# Altium footprint library SH1.0.PcbLib: 18 footprints (part 1 of 2)
Each footprint in its own frame and in the unit in brackets; x right, y up, seen from the top. Pads: shape width x height; smd on the part's side, far side on the other; paste and mask are expansions set on the pad; w line width, h text height; cw(c..) or ccw(c..) is an arc to the next point about the centre after c.
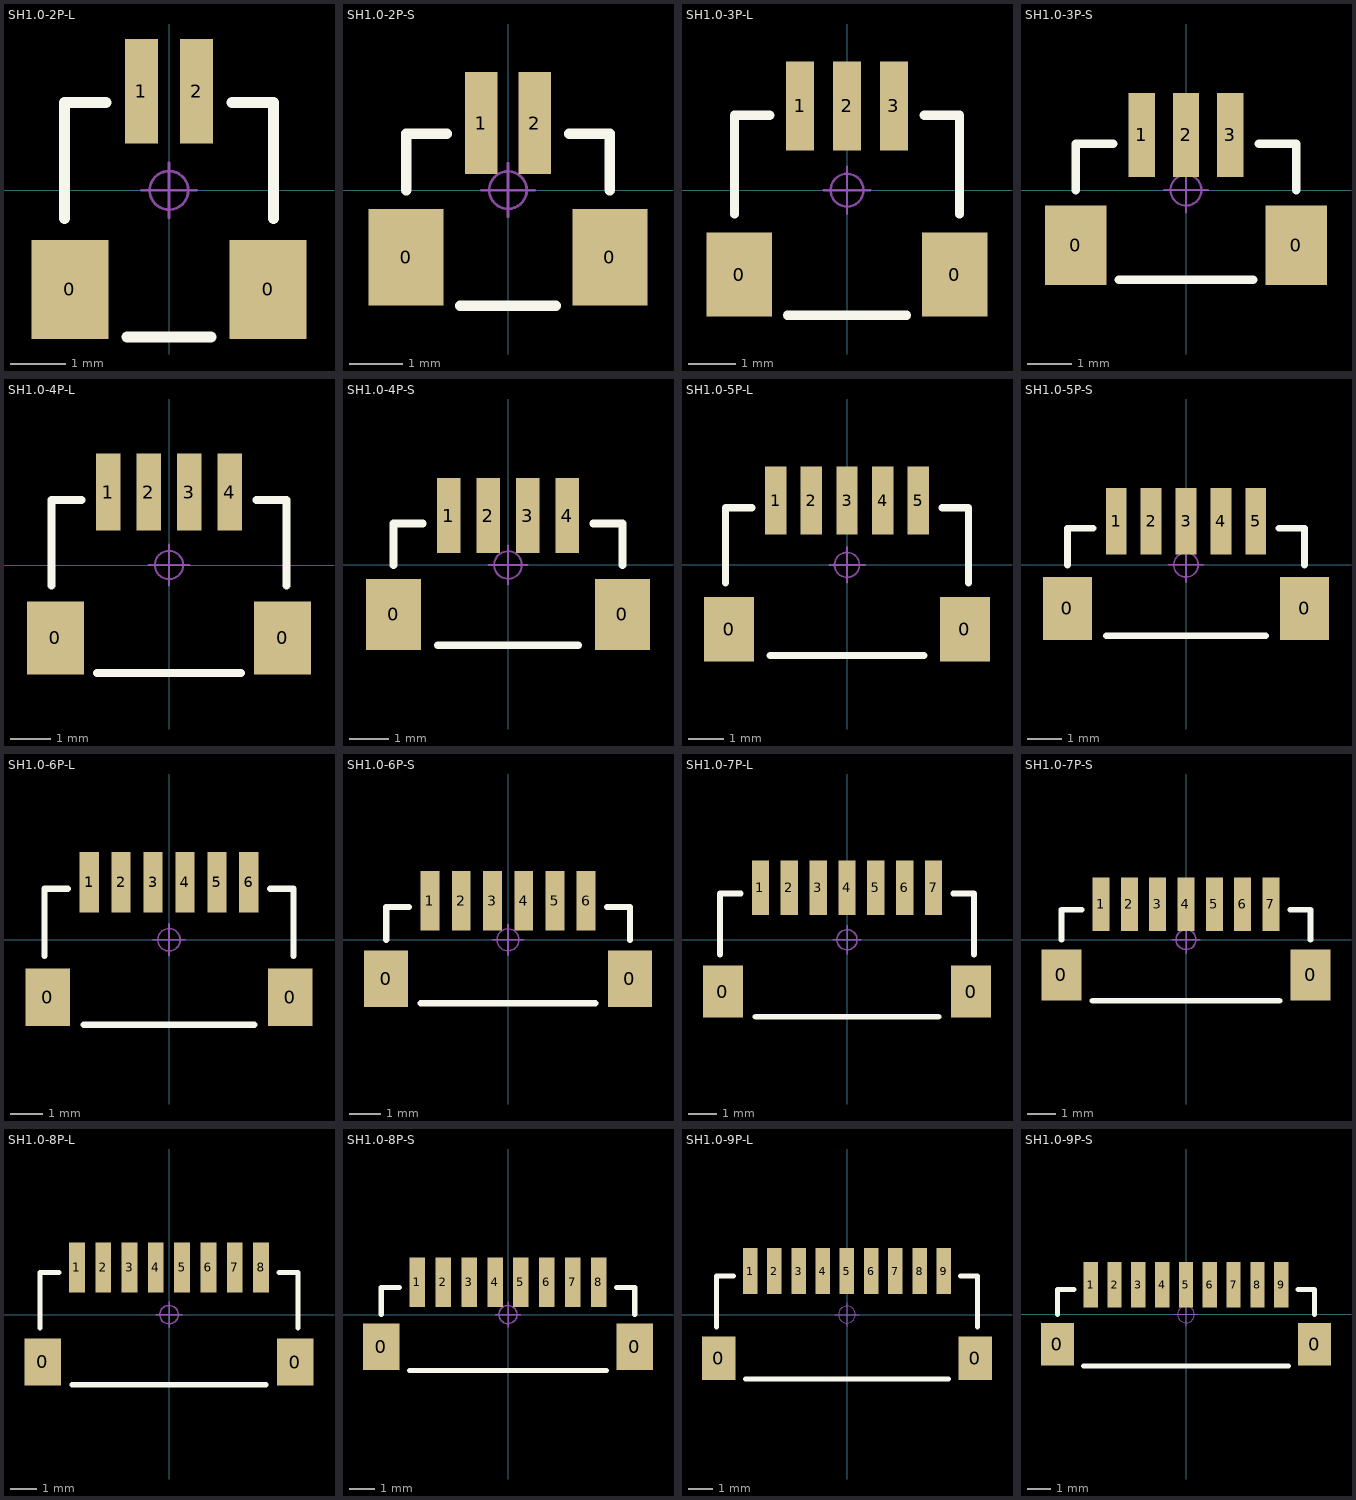
[diagram p0: the footprints below, top view; thin cyan lines are the x and y axes]

## SH1.0-2P-L [mm]
pads (4):
  rect 1.4x1.8 smd: 0(-1.8,-1.8) 0(1.8,-1.8)
  rect 0.6x1.9 smd: 1(-0.5,1.8) 2(0.5,1.8)
Top Overlay:
  lines w0.2: -1.9,-0.508 -1.9,1.6 -1.143,1.6 ; -0.762,-2.667 0.762,-2.667 ; 1.143,1.6 1.8,1.6 1.9,1.6 1.9,1.5 1.9,-0.508
Mechanical 15:
  circle w0.05: c0,0 r0.35
  lines w0.05: -0.5,0 0.5,0 ; 0,-0.5 0,0.5
3D body "SM02B-SRSS-TB.STEP": height 2.96, standoff 0, extent -2,-2.794 2,2.156

## SH1.0-2P-S [mm]
pads (4):
  rect 1.4x1.8 smd: 0(-1.9,-1.25) 0(1.9,-1.25)
  rect 0.6x1.9 smd: 1(-0.5,1.25) 2(0.5,1.25)
Top Overlay:
  lines w0.2: -1.9,0 -1.9,1.05 -1.143,1.05 ; -0.889,-2.159 0.889,-2.159 ; 1.143,1.05 1.9,1.05 1.9,0
Mechanical 15:
  circle w0.05: c0,0 r0.35
  lines w0.05: -0.5,0 0.5,0 ; 0,-0.5 0,0.5
3D body "BM02B-SRSS-TB.STEP": height 4.31, standoff -0.01, extent -2,-2.224 2,1.376

## SH1.0-3P-L [mm]
pads (5):
  rect 1.4x1.8 smd: 0(-2.3,-1.8) 0(2.3,-1.8)
  rect 0.6x1.9 smd: 1(-1,1.8) 2(0,1.8) 3(1,1.8)
Top Overlay:
  lines w0.2: -2.4,-0.508 -2.4,1.6 -1.651,1.6 ; -1.27,-2.667 1.27,-2.667 ; 1.651,1.6 2.3,1.6 2.4,1.6 2.4,1.5 2.4,-0.508
Mechanical 15:
  circle w0.05: c0,0 r0.35
  lines w0.05: -0.5,0 0.5,0 ; 0,-0.5 0,0.5
3D body "SM03B-SRSS-TB.STEP": height 2.96, standoff 0, extent -2.5,-2.794 2.5,2.156

## SH1.0-3P-S [mm]
pads (5):
  rect 1.4x1.8 smd: 0(-2.5,-1.25) 0(2.5,-1.25)
  rect 0.6x1.9 smd: 1(-1,1.25) 2(0,1.25) 3(1,1.25)
Top Overlay:
  lines w0.2: -2.5,0 -2.5,1.05 -1.651,1.05 ; -1.524,-2.032 1.524,-2.032 ; 1.651,1.05 2.5,1.05 2.5,0
Mechanical 15:
  circle w0.05: c0,0 r0.35
  lines w0.05: -0.5,0 0.5,0 ; 0,-0.5 0,0.5
3D body "BM03B-SRSS-TB.STEP": height 4.31, standoff -0.01, extent -2.5,-2.286 2.5,1.314

## SH1.0-4P-L [mm]
pads (6):
  rect 1.4x1.8 smd: 0(-2.8,-1.8) 0(2.8,-1.8)
  rect 0.6x1.9 smd: 1(-1.5,1.8) 2(-0.5,1.8) 3(0.5,1.8) 4(1.5,1.8)
Top Overlay:
  lines w0.2: -2.9,-0.508 -2.9,1.6 -2.159,1.6 ; -1.778,-2.667 1.778,-2.667 ; 2.159,1.6 2.8,1.6 2.9,1.6 2.9,1.5 2.9,-0.508
Mechanical 15:
  circle w0.05: c0,0 r0.35
  lines w0.05: -0.5,0 0.5,0 ; 0,-0.5 0,0.5
3D body "SM04B-SRSS-TB.STEP": height 2.96, standoff 0, extent -3,-2.794 3,2.156

## SH1.0-4P-S [mm]
pads (6):
  rect 1.4x1.8 smd: 0(-2.9,-1.25) 0(2.9,-1.25)
  rect 0.6x1.9 smd: 1(-1.5,1.25) 2(-0.5,1.25) 3(0.5,1.25) 4(1.5,1.25)
Top Overlay:
  lines w0.2: -2.9,0 -2.9,1.05 -2.159,1.05 ; -1.778,-2.032 1.778,-2.032 ; 2.159,1.05 2.9,1.05 2.9,0
Mechanical 15:
  circle w0.05: c0,0 r0.35
  lines w0.05: -0.5,0 0.5,0 ; 0,-0.5 0,0.5
3D body "BM04B-SRSS-TB.STEP": height 4.31, standoff -0.01, extent -3,-2.286 3,1.314

## SH1.0-5P-L [mm]
pads (7):
  rect 1.4x1.8 smd: 0(-3.3,-1.8) 0(3.3,-1.8)
  rect 0.6x1.9 smd: 1(-2,1.8) 2(-1,1.8) 3(0,1.8) 4(1,1.8) 5(2,1.8)
Top Overlay:
  lines w0.2: -3.4,-0.508 -3.4,1.6 -2.667,1.6 ; -2.159,-2.54 2.159,-2.54 ; 2.667,1.6 3.3,1.6 3.4,1.6 3.4,1.5 3.4,-0.508
Mechanical 15:
  circle w0.05: c0,0 r0.35
  lines w0.05: -0.5,0 0.5,0 ; 0,-0.5 0,0.5
3D body "SM05B-SRSS-TB.STEP": height 2.96, standoff 0, extent -3.5,-2.794 3.5,2.156

## SH1.0-5P-S [mm]
pads (7):
  rect 1.4x1.8 smd: 0(-3.4,-1.25) 0(3.4,-1.25)
  rect 0.6x1.9 smd: 1(-2,1.25) 2(-1,1.25) 3(0,1.25) 4(1,1.25) 5(2,1.25)
Top Overlay:
  lines w0.2: -3.4,0 -3.4,1.05 -2.667,1.05 ; -2.286,-2.032 2.286,-2.032 ; 2.667,1.05 3.4,1.05 3.4,0
Mechanical 15:
  circle w0.05: c0,0 r0.35
  lines w0.05: -0.5,0 0.5,0 ; 0,-0.5 0,0.5
3D body "BM05B-SRSS-TB.STEP": height 4.31, standoff -0.01, extent -3.5,-2.286 3.5,1.314

## SH1.0-6P-L [mm]
pads (8):
  rect 1.4x1.8 smd: 0(-3.8,-1.8) 0(3.8,-1.8)
  rect 0.6x1.9 smd: 1(-2.5,1.8) 2(-1.5,1.8) 3(-0.5,1.8) 4(0.5,1.8) 5(1.5,1.8) 6(2.5,1.8)
Top Overlay:
  lines w0.2: -3.9,-0.508 -3.9,1.6 -3.175,1.6 ; -2.667,-2.667 2.667,-2.667 ; 3.175,1.6 3.8,1.6 3.9,1.6 3.9,1.588 3.9,-0.508
Mechanical 15:
  circle w0.05: c0,0 r0.35
  lines w0.05: -0.5,0 0.5,0 ; 0,-0.5 0,0.5
3D body "SM06B-SRSS-TB.STEP": height 2.96, standoff 0, extent -4,-2.794 4,2.156

## SH1.0-6P-S [mm]
pads (8):
  rect 1.4x1.8 smd: 0(-3.9,-1.25) 0(3.9,-1.25)
  rect 0.6x1.9 smd: 1(-2.5,1.25) 2(-1.5,1.25) 3(-0.5,1.25) 4(0.5,1.25) 5(1.5,1.25) 6(2.5,1.25)
Top Overlay:
  lines w0.2: -3.9,0 -3.9,1.05 -3.175,1.05 ; -2.794,-2.032 2.794,-2.032 ; 3.175,1.05 3.9,1.05 3.9,0
Mechanical 15:
  circle w0.05: c0,0 r0.35
  lines w0.05: -0.5,0 0.5,0 ; 0,-0.5 0,0.5
3D body "BM06B-SRSS-TB.STEP": height 4.31, standoff -0.01, extent -4,-2.286 4,1.314

## SH1.0-7P-L [mm]
pads (9):
  rect 1.4x1.8 smd: 0(-4.3,-1.8) 0(4.3,-1.8)
  rect 0.6x1.9 smd: 1(-3,1.8) 2(-2,1.8) 3(-1,1.8) 4(0,1.8) 5(1,1.8) 6(2,1.8) 7(3,1.8)
Top Overlay:
  lines w0.2: -4.4,-0.508 -4.4,1.6 -3.683,1.6 ; -3.175,-2.667 3.175,-2.667 ; 3.683,1.6 4.3,1.6 4.4,1.6 4.4,1.5 4.4,-0.508
Mechanical 15:
  circle w0.05: c0,0 r0.35
  lines w0.05: -0.5,0 0.5,0 ; 0,-0.5 0,0.5
3D body "SM07B-SRSS-TB.STEP": height 2.96, standoff 0, extent -4.5,-2.794 4.5,2.156

## SH1.0-7P-S [mm]
pads (9):
  rect 1.4x1.8 smd: 0(-4.401,-1.249) 0(4.401,-1.251)
  rect 0.6x1.9 smd: 1(-3.001,1.251) 2(-2.001,1.251) 3(-1.001,1.251) 4(-0.001,1.251) 5(0.999,1.251) 6(1.999,1.251) 7(2.999,1.251)
Top Overlay:
  lines w0.2: -4.401,0 -4.401,1.051 -3.683,1.051 ; -3.302,-2.159 3.302,-2.159 ; 3.683,1.049 4.401,1.049 4.401,0
Mechanical 15:
  circle w0.05: c0,0 r0.35
  lines w0.05: -0.5,0 0.5,0 ; 0,-0.5 0,0.5
3D body "BM07B-SRSS-TB.STEP": height 4.31, standoff -0.01, extent -4.5,-2.286 4.5,1.314

## SH1.0-8P-L [mm]
pads (10):
  rect 1.4x1.8 smd: 0(-4.801,-1.799) 0(4.801,-1.801)
  rect 0.6x1.9 smd: 1(-3.501,1.801) 2(-2.501,1.801) 3(-1.501,1.801) 4(-0.501,1.801) 5(0.499,1.801) 6(1.499,1.801) 7(2.499,1.801) 8(3.499,1.801)
Top Overlay:
  lines w0.2: -4.901,-0.508 -4.901,1.601 -4.191,1.601 ; -3.683,-2.667 3.683,-2.667 ; 4.191,1.599 4.801,1.599 4.901,1.599 4.901,1.499 4.901,-0.508
Mechanical 15:
  circle w0.05: c0,0 r0.35
  lines w0.05: -0.5,0 0.5,0 ; 0,-0.5 0,0.5
3D body "SM08B-SRSS-TB.STEP": height 2.96, standoff 0, extent -5,-2.794 5,2.156

## SH1.0-8P-S [mm]
pads (10):
  rect 1.4x1.8 smd: 0(-4.9,-1.25) 0(4.9,-1.25)
  rect 0.6x1.9 smd: 1(-3.5,1.25) 2(-2.5,1.25) 3(-1.5,1.25) 4(-0.5,1.25) 5(0.5,1.25) 6(1.5,1.25) 7(2.5,1.25) 8(3.5,1.25)
Top Overlay:
  lines w0.2: -4.9,0 -4.9,1.05 -4.191,1.05 ; -3.81,-2.159 3.81,-2.159 ; 4.191,1.05 4.9,1.05 4.9,0
Mechanical 15:
  circle w0.05: c0,0 r0.35
  lines w0.05: -0.5,0 0.5,0 ; 0,-0.5 0,0.5
3D body "BM08B-SRSS-TB.STEP": height 4.31, standoff -0.01, extent -5,-2.286 5,1.314

## SH1.0-9P-L [mm]
pads (11):
  rect 1.4x1.8 smd: 0(-5.301,-1.799) 0(5.301,-1.801)
  rect 0.6x1.9 smd: 1(-4.001,1.801) 2(-3.001,1.801) 3(-2.001,1.801) 4(-1.001,1.801) 5(-0.001,1.801) 6(0.999,1.801) 7(1.999,1.801) 8(2.999,1.801) 9(3.999,1.801)
Top Overlay:
  lines w0.2: -5.401,-0.508 -5.401,1.601 -4.699,1.601 ; -4.191,-2.667 4.191,-2.667 ; 4.699,1.599 5.301,1.599 5.401,1.599 5.401,1.499 5.401,-0.508
Mechanical 15:
  circle w0.05: c0,0 r0.35
  lines w0.05: -0.5,0 0.5,0 ; 0,-0.5 0,0.5
3D body "SM09B-SRSS-TB.STEP": height 2.96, standoff 0, extent -5.5,-2.794 5.5,2.156

## SH1.0-9P-S [mm]
pads (11):
  rect 1.4x1.8 smd: 0(-5.401,-1.249) 0(5.401,-1.251)
  rect 0.6x1.9 smd: 1(-4.001,1.251) 2(-3.001,1.251) 3(-2.001,1.251) 4(-1.001,1.251) 5(-0.001,1.251) 6(0.999,1.251) 7(1.999,1.251) 8(2.999,1.251) 9(3.999,1.251)
Top Overlay:
  lines w0.2: -5.401,0 -5.401,1.051 -4.699,1.051 ; -4.318,-2.159 4.318,-2.159 ; 4.699,1.049 5.401,1.049 5.401,0
Mechanical 15:
  circle w0.05: c0,0 r0.35
  lines w0.05: -0.5,0 0.5,0 ; 0,-0.5 0,0.5
3D body "BM09B-SRSS-TB.STEP": height 4.31, standoff -0.01, extent -5.5,-2.286 5.5,1.314